# Altium schematic symbol library Balancing.SchLib: 9 symbols
Pins are listed as number, name and electrical type; pins without a type are passive.

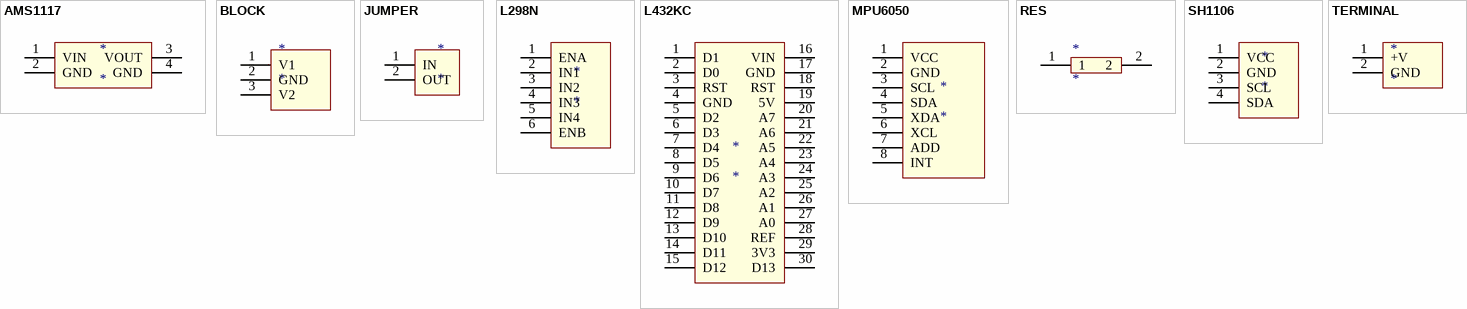
[diagram p0: symbols AMS1117 to TERMINAL]

## AMS1117
designator *
footprint AMS1117
pins: 1 VIN, 2 GND, 3 VOUT, 4 GND

## BLOCK
designator *
footprint BLOCK
pins: 1 V1, 2 GND, 3 V2

## JUMPER
designator *
footprint JUMPER
pins: 1 IN, 2 OUT

## L298N
designator *
footprint L298N
pins: 1 ENA, 2 IN1, 3 IN2, 4 IN3, 5 IN4, 6 ENB

## L432KC
designator *
footprint L432KC
pins: 1 D1, 2 D0, 3 RST, 4 GND, 5 D2, 6 D3, 7 D4, 8 D5, 9 D6, 10 D7, 11 D8, 12 D9, 13 D10, 14 D11, 15 D12, 16 VIN, 17 GND, 18 RST, 19 5V, 20 A7, 21 A6, 22 A5, 23 A4, 24 A3, 25 A2, 26 A1, 27 A0, 28 REF, 29 3V3, 30 D13

## MPU6050
designator *
footprint MPU6050
pins: 1 VCC, 2 GND, 3 SCL, 4 SDA, 5 XDA, 6 XCL, 7 ADD, 8 INT

## RES
designator *
footprint RES
pins: 1, 2

## SH1106
designator *
footprint SH1116
pins: 1 VCC, 2 GND, 3 SCL, 4 SDA

## TERMINAL
designator *
footprint TERMINAL
pins: 1 +V, 2 GND